# EAGLE library part SCU (library bluepill)
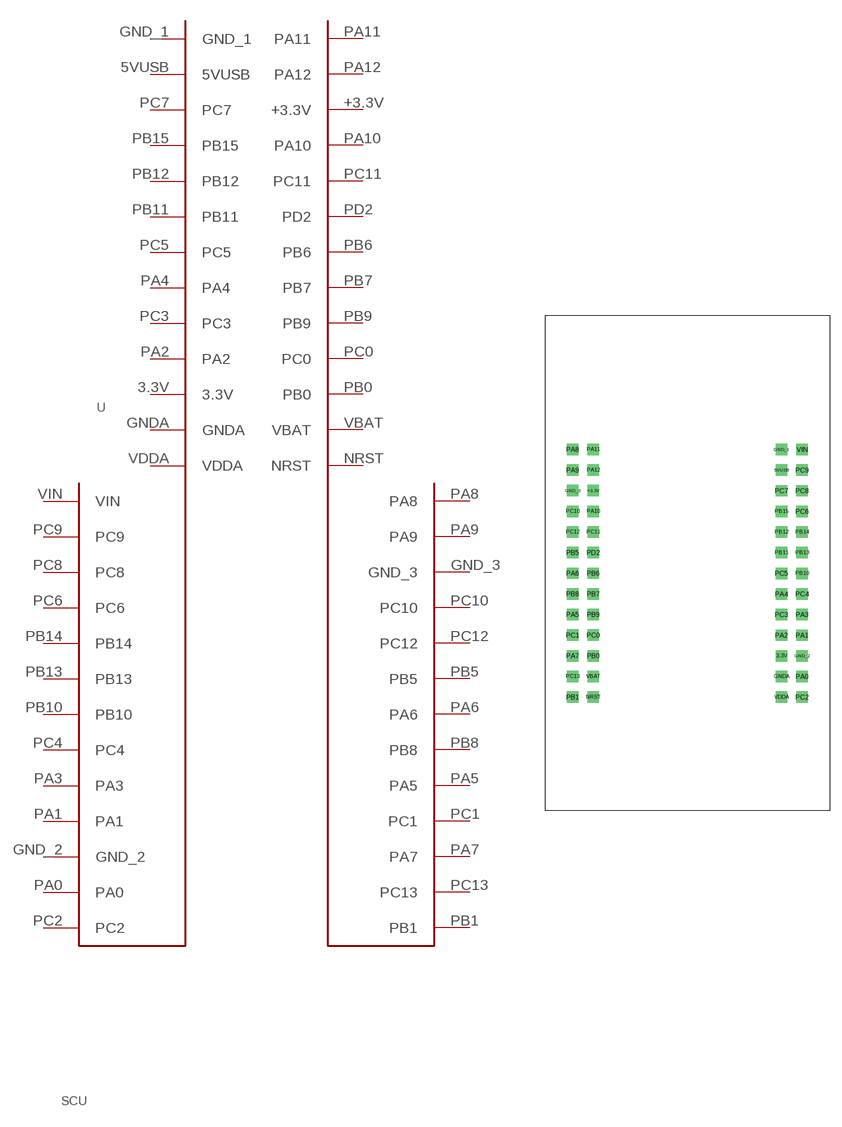
[diagram p7: symbol with the pads of SCU; footprint SCU]

Designator prefix -

## SCU  [SCU]
3.3V  3.3V
5VUSB  5VUSB
+3.3V  +3.3V
GND_1  GND_1
GND_2  GND_2
GND_3  GND_3
GNDA  GNDA
NRST  NRST
PA0  PA0
PA1  PA1
PA2  PA2
PA3  PA3
PA4  PA4
PA5  PA5
PA6  PA6
PA7  PA7
PA8  PA8
PA9  PA9
PA10  PA10
PA11  PA11
PA12  PA12
PB0  PB0
PB1  PB1
PB5  PB5
PB6  PB6
PB7  PB7
PB8  PB8
PB9  PB9
PB10  PB10
PB11  PB11
PB12  PB12
PB13  PB13
PB14  PB14
PB15  PB15
PC0  PC0
PC1  PC1
PC2  PC2
PC3  PC3
PC4  PC4
PC5  PC5
PC6  PC6
PC7  PC7
PC8  PC8
PC9  PC9
PC10  PC10
PC11  PC11
PC12  PC12
PC13  PC13
PD2  PD2
VBAT  VBAT
VDDA  VDDA
VIN  VIN

## Footprint SCU (pad centres in mm)
drill 0.9 square: 3.3V 11.59,-11.43; 5VUSB 11.59,11.43; +3.3V -11.59,8.9; GND_1 11.59,13.97; GND_2 14.13,-11.43; GND_3 -14.13,8.9; GNDA 11.59,-13.97; NRST -11.59,-16.5; PA0 14.13,-13.97; PA1 14.13,-8.89; PA2 11.59,-8.89; PA3 14.13,-6.35; PA4 11.59,-3.81; PA5 -14.13,-6.34; PA6 -14.13,-1.26; PA7 -14.13,-11.42; PA8 -14.13,13.98; PA9 -14.13,11.44; PA10 -11.59,6.36; PA11 -11.59,13.98; PA12 -11.59,11.44; PB0 -11.59,-11.42; PB1 -14.13,-16.5; PB5 -14.13,1.28; PB6 -11.59,-1.26; PB7 -11.59,-3.8; PB8 -14.13,-3.8; PB9 -11.59,-6.34; PB10 14.13,-1.27; PB11 11.59,1.27; PB12 11.59,3.81; PB13 14.13,1.27; PB14 14.13,3.81; PB15 11.59,6.35; PC0 -11.59,-8.88; PC1 -14.13,-8.88; PC2 14.13,-16.51; PC3 11.59,-6.35; PC4 14.13,-3.81; PC5 11.59,-1.27; PC6 14.13,6.35; PC7 11.59,8.89; PC8 14.13,8.89; PC9 14.13,11.43; PC10 -14.13,6.36; PC11 -11.59,3.82; PC12 -14.13,3.82; PC13 -14.13,-13.96; PD2 -11.59,1.28; VBAT -11.59,-13.96; VDDA 11.59,-16.51; VIN 14.13,13.97